# Altium footprint library CAPC1005X70N.PcbLib: 1 footprints
Each footprint in its own frame and in the unit in brackets; x right, y up, seen from the top. Pads: shape width x height; smd on the part's side, far side on the other; paste and mask are expansions set on the pad; w line width, h text height; cw(c..) or ccw(c..) is an arc to the next point about the centre after c.
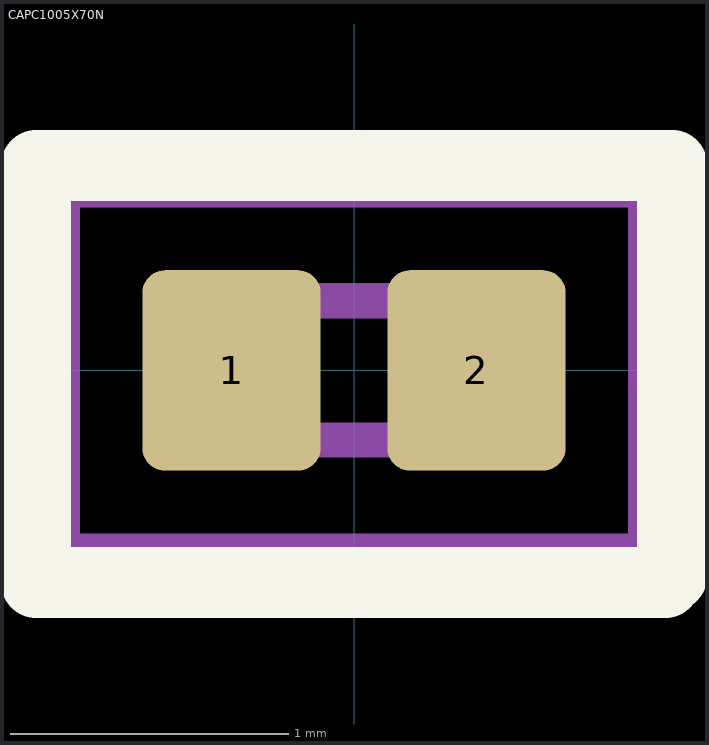
[diagram p0: the footprint, top view; thin cyan lines are the x and y axes]

## CAPC1005X70N [mm]
height 0.7
pads (2):
  rrect25% 0.64x0.72 smd: 1(-0.44,0) 2(0.44,0)
Top Overlay:
  lines w0.254: -1.143,-0.762 1.118,-0.762 1.143,-0.737 1.143,0.711 1.143,0.737 -1.143,0.737 -1.143,-0.762
Assembly Top:
  lines w0.127: -0.5,-0.25 -0.5,0.25 0.5,0.25 0.5,-0.25 -0.5,-0.25
Courtyard Top:
  lines w0.05: -1.01,-0.61 1.01,-0.61 1.01,0.61 -1.01,0.61 -1.01,-0.61
3D body "step_temp.STEP": height 0.55, standoff 0, extent -0.5,-0.25 0.5,0.25